# EAGLE library part 734-512 (library con-wago_3.81mm)
Serie 734, Federleiste mit geraden Einlötstiften / Series 734, Female connector with straight solder pins Polzahl / Pole No.: 12 Bemessungsspannung / Rated Voltage: 160 V Nennstrom / Nominal Current: 10 A Lötstiftlänge: / Solder Pin Length: 3.8 mm Farbe / Color: orange / orange Stand: 01.01.2012. Die jeweils aktuellen Daten zu diesem Artikel finden Sie in unserem Produktkatalog, den Sie unter www.wago.com einsehen können. As of: 01/01/2012. Please find the newest data for this article in our product catalogue, which can be viewed under www.wago.com.
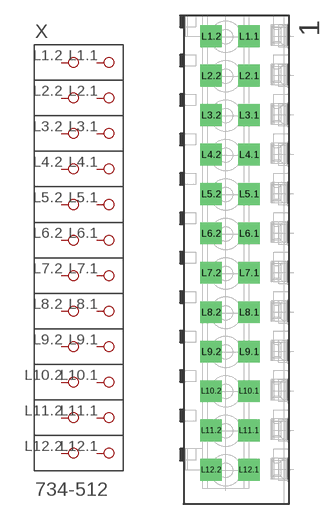
[diagram p44: symbol with the pads of P-734-512; footprint P-734-512]

Designator prefix X

## 734-512  [P-734-512]
L1.1  P1.1
L1.2  P1.2
L2.1  P2.1
L2.2  P2.2
L3.1  P3.1
L3.2  P3.2
L4.1  P4.1
L4.2  P4.2
L5.1  P5.1
L5.2  P5.2
L6.1  P6.1
L6.2  P6.2
L7.1  P7.1
L7.2  P7.2
L8.1  P8.1
L8.2  P8.2
L9.1  P9.1
L9.2  P9.2
L10.1  P10.1
L10.2  P10.2
L11.1  P11.1
L11.2  P11.2
L12.1  P12.1
L12.2  P12.2

## Footprint P-734-512 (pad centres in mm)
drill 1.4 square: L1.1 1.152,21.6; L1.2 -2.498,21.6; L2.1 1.152,17.79; L2.2 -2.498,17.79; L3.1 1.152,13.98; L3.2 -2.498,13.98; L4.1 1.152,10.17; L4.2 -2.498,10.17; L5.1 1.152,6.36; L5.2 -2.498,6.36; L6.1 1.152,2.55; L6.2 -2.498,2.55; L7.1 1.152,-1.26; L7.2 -2.498,-1.26; L8.1 1.152,-5.07; L8.2 -2.498,-5.07; L9.1 1.152,-8.88; L9.2 -2.498,-8.88; L10.1 1.152,-12.69; L10.2 -2.498,-12.69; L11.1 1.152,-16.5; L11.2 -2.498,-16.5; L12.1 1.152,-20.31; L12.2 -2.498,-20.31